# Altium schematic symbol library PMSM.SchLib: 18 symbols
Pins are listed as number, name and electrical type; pins without a type are passive.

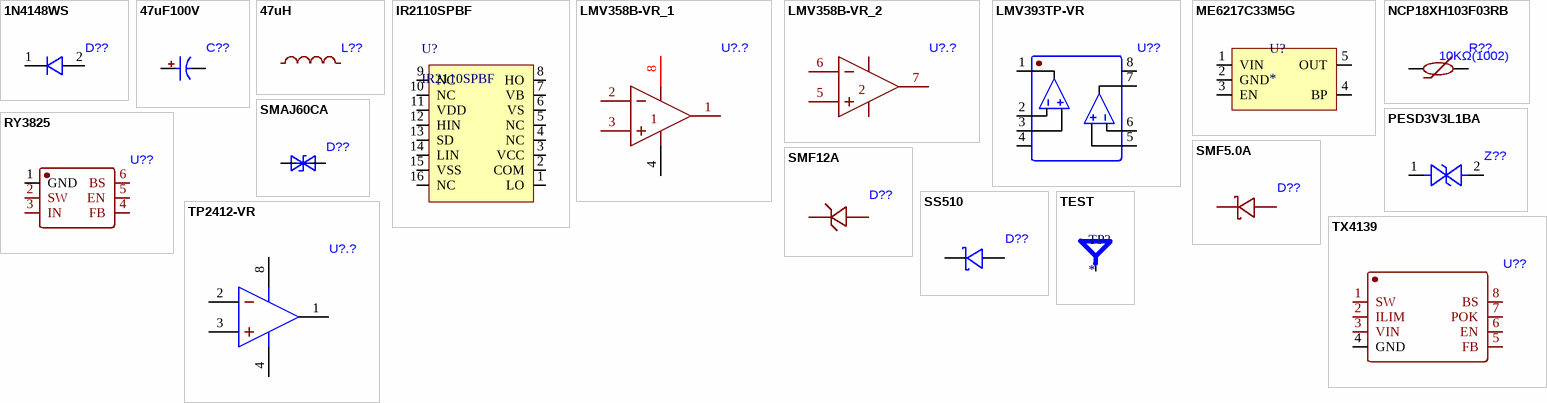
[diagram p0: symbols 1N4148WS to TX4139]

## 1N4148WS
designator D??
footprint 0805-1N4148
pins: 1, 2

## 47uF100V
designator C??
footprint CAP-TH_BD8.0-P3.50-D0.6-FD
pins: 1, 2

## 47uH
designator L??
footprint INDUCTOR_0650_47UH
pins: 1, 2

## IR2110SPBF
designator U?
pins: 1 LO, 2 COM, 3 VCC, 4 NC, 5 NC, 6 VS, 7 VB, 8 HO, 9 NC, 10 NC, 11 VDD, 12 HIN, 13 SD, 14 LIN, 15 VSS, 16 NC

## LMV358B-VR_1
designator U?.?
footprint MSOP-8_L3.0-W3.0-P0.65-LS5.0-BL
pins: 1 OUTA, 2 INA-, 3 INA+, 4 -VS, 8 +VS

## LMV358B-VR_2
designator U?.?
footprint MSOP-8_L3.0-W3.0-P0.65-LS5.0-BL
pins: 5 INB+, 6 INB-, 7 OUTB
text: 2

## LMV393TP-VR
designator U??
footprint MSOP-8_L3.0-W3.0-P0.65-LS5.0-BL
pins: 1, 2, 3, 4 GND, 5, 6, 7, 8 VDD

## ME6217C33M5G
designator U?
pins: 1 VIN, 2 GND, 3 EN, 4 BP, 5 OUT

## NCP18XH103F03RB
designator R??, comment 10KΩ(1002)
footprint R0603
pins: 1, 2

## PESD3V3L1BA
designator Z??
footprint SOD323
pins: 1, 2

## RY3825
designator U??
footprint SOT-23-6_L2.9-W1.6-P0.95-LS2.8-BL
pins: 1 GND, 2 SW, 3 IN, 4 FB, 5 EN, 6 BS

## SMAJ60CA
designator D??
footprint DO214AC
pins: 1, 2

## SMF5.0A
designator D??
footprint SOD-123_L2.8-W1.8-LS3.7-RD
pins: 1 K, 2 A

## SMF12A
designator D??
footprint SOD-123F_L2.8-W1.8-LS3.7-RD
pins: 1 C, 2 A

## SS510
designator D??
footprint SMA
pins: 1 K, 2 A

## TEST
designator TP?
pins: 1

## TP2412-VR
designator U?.?
footprint SOP-8_L3.0-W3.0-P0.65-LS4.9-BL
pins: 1 OUTA, 2 -INA, 3 +INA, 4 -VS, 8 +VS

## TX4139
designator U??
footprint SOIC-8_L4.9-W3.9-P1.27-LS6.0-BL-EP
pins: 1 SW, 2 ILIM, 3 VIN, 4 GND, 5 FB, 6 EN, 7 POK, 8 BS